# Altium schematic symbol library CB_ChipInductor.SchLib: 52 symbols
Pins are listed as number, name and electrical type; pins without a type are passive.

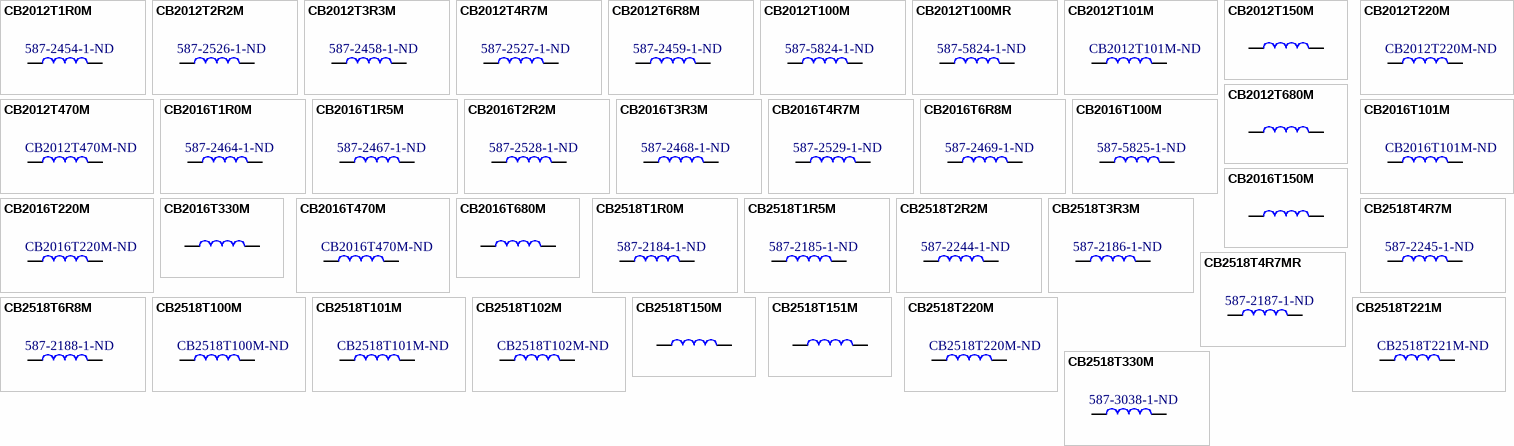
[diagram p0: symbols CB2012T1R0M to CB2518T330M]

## CB2012T1R0M
designator L?  Supplier Part Number 1: 587-2454-1-ND  (hidden comment: CB2012T1R0M)
Taiyo Yuden / CB Series Chip Inductor / 1.0 uH; Supplier 1: Digi-Key
footprint CB2012
pins: 1, 2

## CB2012T2R2M
designator L?  Supplier Part Number 1: 587-2526-1-ND  (hidden comment: CB2012T2R2M)
Taiyo Yuden / CB Series Chip Inductor / 2.2 uH; Supplier 1: Digi-Key
footprint CB2012
pins: 1, 2

## CB2012T3R3M
designator L?  Supplier Part Number 1: 587-2458-1-ND  (hidden comment: CB2012T3R3M)
Taiyo Yuden / CB Series Chip Inductor / 3.3 uH; Supplier 1: Digi-Key
footprint CB2012
pins: 1, 2

## CB2012T4R7M
designator L?  Supplier Part Number 1: 587-2527-1-ND  (hidden comment: CB2012T4R7M)
Taiyo Yuden / CB Series Chip Inductor / 4.7 uH; Supplier 1: Digi-Key
footprint CB2012
pins: 1, 2

## CB2012T6R8M
designator L?  Supplier Part Number 1: 587-2459-1-ND  (hidden comment: CB2012T6R8M)
Taiyo Yuden / CB Series Chip Inductor / 6.8 uH; Supplier 1: Digi-Key
footprint CB2012
pins: 1, 2

## CB2012T100M
designator L?  Supplier Part Number 1: 587-5824-1-ND  (hidden comment: CB2012T100M)
Taiyo Yuden / CB Series Chip Inductor / 10 uH; Supplier 1: Digi-Key
footprint CB2012
pins: 1, 2

## CB2012T100MR
designator L?  Supplier Part Number 1: 587-5824-1-ND  (hidden comment: CB2012T100MR)
Taiyo Yuden / CB Series Chip Inductor / 10 uH; Supplier 1: Digi-Key
footprint CB2012
pins: 1, 2

## CB2012T101M
designator L?  Supplier Part Number 1: CB2012T101M-ND  (hidden comment: CB2012T101M)
Taiyo Yuden / CB Series Chip Inductor / 100 uH; Supplier 1: Digi-Key
footprint CB2012
pins: 1, 2

## CB2012T150M
designator L?  (value not drawn)
Taiyo Yuden / CB Series Chip Inductor / 15 uH
footprint CB2012
pins: 1, 2

## CB2012T220M
designator L?  Supplier Part Number 1: CB2012T220M-ND  (hidden comment: CB2012T220M)
Taiyo Yuden / CB Series Chip Inductor / 22 uH; Supplier 1: Digi-Key
footprint CB2012
pins: 1, 2

## CB2012T470M
designator L?  Supplier Part Number 1: CB2012T470M-ND  (hidden comment: CB2012T470M)
Taiyo Yuden / CB Series Chip Inductor / 47 uH; Supplier 1: Digi-Key
footprint CB2012
pins: 1, 2

## CB2012T680M
designator L?, comment CM2012T680M  (value not drawn)
Taiyo Yuden / CB Series Chip Inductor / 68 uH
footprint CB2012
pins: 1, 2

## CB2016T1R0M
designator L?  Supplier Part Number 1: 587-2464-1-ND  (hidden comment: CB2016T1R0M)
Taiyo Yuden / CB Series Chip Inductor / 1.0 uH; Supplier 1: Digi-Key
footprint CB2016
pins: 1, 2

## CB2016T1R5M
designator L?  Supplier Part Number 1: 587-2467-1-ND  (hidden comment: CB2016T1R5M)
Taiyo Yuden / CB Series Chip Inductor / 1.5 uH; Supplier 1: Digi-Key
footprint CB2016
pins: 1, 2

## CB2016T2R2M
designator L?  Supplier Part Number 1: 587-2528-1-ND  (hidden comment: CB2016T2R2M)
Taiyo Yuden / CB Series Chip Inductor / 2.2 uH; Supplier 1: Digi-Key
footprint CB2016
pins: 1, 2

## CB2016T3R3M
designator L?  Supplier Part Number 1: 587-2468-1-ND  (hidden comment: CB2016T3R3M)
Taiyo Yuden / CB Series Chip Inductor / 3.3 uH; Supplier 1: Digi-Key
footprint CB2016
pins: 1, 2

## CB2016T4R7M
designator L?  Supplier Part Number 1: 587-2529-1-ND  (hidden comment: CB2016T4R7M)
Taiyo Yuden / CB Series Chip Inductor / 4.7 uH; Supplier 1: Digi-Key
footprint CB2016
pins: 1, 2

## CB2016T6R8M
designator L?  Supplier Part Number 1: 587-2469-1-ND  (hidden comment: CB2016T6R8M)
Taiyo Yuden / CB Series Chip Inductor / 6.8 uH; Supplier 1: Digi-Key
footprint CB2016
pins: 1, 2

## CB2016T100M
designator L?  Supplier Part Number 1: 587-5825-1-ND  (hidden comment: CB2016T100M)
Taiyo Yuden / CB Series Chip Inductor / 10 uH; Supplier 1: Digikey
footprint CB2016
pins: 1, 2

## CB2016T101M
designator L?  Supplier Part Number 1: CB2016T101M-ND  (hidden comment: CB2016T101M)
Taiyo Yuden / CB Series Chip Inductor / 100 uH; Supplier 1: Digi-Key
footprint CB2016
pins: 1, 2

## CB2016T150M
designator L?  (value not drawn)
Taiyo Yuden / CB Series Chip Inductor / 15 uH
footprint CB2016
pins: 1, 2

## CB2016T220M
designator L?  Supplier Part Number 1: CB2016T220M-ND  (hidden comment: CB2016T220M)
Taiyo Yuden / CB Series Chip Inductor / 22 uH; Supplier 1: Digi-Key
footprint CB2016
pins: 1, 2

## CB2016T330M
designator L?  (value not drawn)
Taiyo Yuden / CB Series Chip Inductor / 33 uH
footprint CB2016
pins: 1, 2

## CB2016T470M
designator L?  Supplier Part Number 1: CB2016T470M-ND  (hidden comment: CB2016T470M)
Taiyo Yuden / CB Series Chip Inductor / 47 uH; Supplier 1: Digi-Key
footprint CB2016
pins: 1, 2

## CB2016T680M
designator L?  (value not drawn)
Taiyo Yuden / CB Series Chip Inductor / 68 uH
footprint CB2016
pins: 1, 2

## CB2518T1R0M
designator L?  Supplier Part Number 1: 587-2184-1-ND  (hidden comment: CB2518T1R0M)
Taiyo Yuden / CB Series Chip Inductor / 1.0 uH; Supplier 1: Digi-Key
footprint CB2518
pins: 1, 2

## CB2518T1R5M
designator L?  Supplier Part Number 1: 587-2185-1-ND  (hidden comment: CB2518T1R5M)
Taiyo Yuden / CB Series Chip Inductor / 1.5 uH; Supplier 1: Digi-Key
footprint CB2518
pins: 1, 2

## CB2518T2R2M
designator L?  Supplier Part Number 1: 587-2244-1-ND  (hidden comment: CB2518T2R2M)
Taiyo Yuden / CB Series Chip Inductor / 2.2 uH; Supplier 1: Digi-Key
footprint CB2518
pins: 1, 2

## CB2518T3R3M
designator L?  Supplier Part Number 1: 587-2186-1-ND  (hidden comment: CB2518T3R3M)
Taiyo Yuden / CB Series Chip Inductor / 3.3 uH; Supplier 1: Digi-Key
footprint CB2518
pins: 1, 2

## CB2518T4R7M
designator L?  Supplier Part Number 1: 587-2245-1-ND  (hidden comment: CB2518T4R7M)
Taiyo Yuden / CB Series Chip Inductor / 4.7 uH; Supplier 1: Digi-Key
footprint CB2518
pins: 1, 2

## CB2518T4R7MR
designator L?  Supplier Part Number 1: 587-2187-1-ND  (hidden comment: CB2518T4R7MR)
Taiyo Yuden / CB Series Chip Inductor / 4.7 uH; Supplier 1: Digi-Key
footprint CB2518
pins: 1, 2

## CB2518T6R8M
designator L?  Supplier Part Number 1: 587-2188-1-ND  (hidden comment: CB2518T6R8M)
Taiyo Yuden / CB Series Chip Inductor / 6.8 uH; Supplier 1: Digi-Key
footprint CB2518
pins: 1, 2

## CB2518T100M
designator L?  Supplier Part Number 1: CB2518T100M-ND  (hidden comment: CB2518T100M)
Taiyo Yuden / CB Series Chip Inductor / 10 uH; Supplier 1: Digi-Key
footprint CB2518
pins: 1, 2

## CB2518T101M
designator L?  Supplier Part Number 1: CB2518T101M-ND  (hidden comment: CB2518T101M)
Taiyo Yuden / CB Series Chip Inductor / 100 uH; Supplier 1: Digi-Key
footprint CB2518
pins: 1, 2

## CB2518T102M
designator L?  Supplier Part Number 1: CB2518T102M-ND  (hidden comment: CB2518T102M)
Taiyo Yuden / CB Series Chip Inductor / 1000 uH; Supplier 1: Digi-Key
footprint CB2518
pins: 1, 2

## CB2518T150M
designator L?  (value not drawn)
Taiyo Yuden / CB Series Chip Inductor / 15 uH
footprint CB2518
pins: 1, 2

## CB2518T151M
designator L?  (value not drawn)
Taiyo Yuden / CB Series Chip Inductor / 150 uH
footprint CB2518
pins: 1, 2

## CB2518T220M
designator L?  Supplier Part Number 1: CB2518T220M-ND  (hidden comment: CB2518T220M)
Taiyo Yuden / CB Series Chip Inductor / 22 uH; Supplier 1: Digi-Key
footprint CB2518
pins: 1, 2

## CB2518T221M
designator L?  Supplier Part Number 1: CB2518T221M-ND  (hidden comment: CB2518T221M)
Taiyo Yuden / CB Series Chip Inductor / 220 uH; Supplier 1: Digi-Key
footprint CB2518
pins: 1, 2

## CB2518T330M
designator L?  Supplier Part Number 1: 587-3038-1-ND  (hidden comment: CB2518T330M)
Taiyo Yuden / CB Series Chip Inductor / 33 uH; Supplier 1: Digi-Key
footprint CB2518
pins: 1, 2

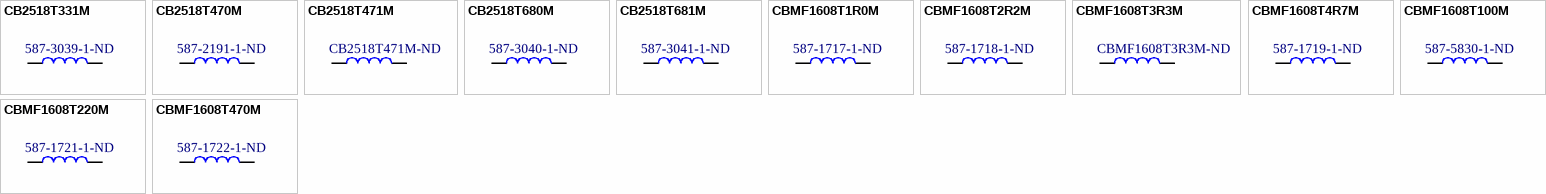
[diagram p1: symbols CB2518T331M to CBMF1608T470M]

## CB2518T331M
designator L?  Supplier Part Number 1: 587-3039-1-ND  (hidden comment: CB2518T331M)
Taiyo Yuden / CB Series Chip Inductor / 330 uH; Supplier 1: Digi-Key
footprint CB2518
pins: 1, 2

## CB2518T470M
designator L?  Supplier Part Number 1: 587-2191-1-ND  (hidden comment: CB2518T470M)
Taiyo Yuden / CB Series Chip Inductor / 47 uH; Supplier 1: Digi-Key
footprint CB2518
pins: 1, 2

## CB2518T471M
designator L?  Supplier Part Number 1: CB2518T471M-ND  (hidden comment: CB2518T471M)
Taiyo Yuden / CB Series Chip Inductor / 470 uH; Supplier 1: Digi-Key
footprint CB2518
pins: 1, 2

## CB2518T680M
designator L?  Supplier Part Number 1: 587-3040-1-ND  (hidden comment: CB2518T680M)
Taiyo Yuden / CB Series Chip Inductor / 68 uH; Supplier 1: Digi-Key
footprint CB2518
pins: 1, 2

## CB2518T681M
designator L?  Supplier Part Number 1: 587-3041-1-ND  (hidden comment: CB2518T681M)
Taiyo Yuden / CB Series Chip Inductor / 680 uH; Supplier 1: Digi-Key
footprint CB2518
pins: 1, 2

## CBMF1608T1R0M
designator L?  Supplier Part Number 1: 587-1717-1-ND  (hidden comment: CBMF1608T1R0M)
Taiyo Yuden / CB Series Chip Inductor / 1.0 uH; Supplier 1: Digi-Key
footprint CBMF1608 (Chip Inductor, 2-Leads, Body 1.60x0.80mm, IPC Medium Density)
pins: 1, 2

## CBMF1608T2R2M
designator L?  Supplier Part Number 1: 587-1718-1-ND  (hidden comment: CBMF1608T2R2M)
Taiyo Yuden / CB Series Chip Inductor / 2.2 uH; Supplier 1: Digi-Key
footprint CBMF1608 (Chip Inductor, 2-Leads, Body 1.60x0.80mm, IPC Medium Density)
pins: 1, 2

## CBMF1608T3R3M
designator L?  Supplier Part Number 1: CBMF1608T3R3M-ND  (hidden comment: CBMF1608T3R3M)
Taiyo Yuden / CB Series Chip Inductor / 3.3 uH; Supplier 1: Digi-Key
footprint CBMF1608 (Chip Inductor, 2-Leads, Body 1.60x0.80mm, IPC Medium Density)
pins: 1, 2

## CBMF1608T4R7M
designator L?  Supplier Part Number 1: 587-1719-1-ND  (hidden comment: CBMF1608T4R7M)
Taiyo Yuden / CB Series Chip Inductor / 4.7 uH; Supplier 1: Digi-Key
footprint CBMF1608 (Chip Inductor, 2-Leads, Body 1.60x0.80mm, IPC Medium Density)
pins: 1, 2

## CBMF1608T100M
designator L?  Supplier Part Number 1: 587-5830-1-ND  (hidden comment: CBMF1608T100M)
Taiyo Yuden / CB Series Chip Inductor / 10 uH; Supplier 1: Digi-Key
footprint CBMF1608 (Chip Inductor, 2-Leads, Body 1.60x0.80mm, IPC Medium Density)
pins: 1, 2

## CBMF1608T220M
designator L?  Supplier Part Number 1: 587-1721-1-ND  (hidden comment: CBMF1608T220M)
Taiyo Yuden / CB Series Chip Inductor / 22 uH; Supplier 1: Digi-Key
footprint CBMF1608 (Chip Inductor, 2-Leads, Body 1.60x0.80mm, IPC Medium Density)
pins: 1, 2

## CBMF1608T470M
designator L?  Supplier Part Number 1: 587-1722-1-ND  (hidden comment: CBMF1608T470M)
Taiyo Yuden / CB Series Chip Inductor / 47 uH; Supplier 1: Digi-Key
footprint CBMF1608 (Chip Inductor, 2-Leads, Body 1.60x0.80mm, IPC Medium Density)
pins: 1, 2